# EAGLE library part WURTH-61201021621 (library EagleLibrary)
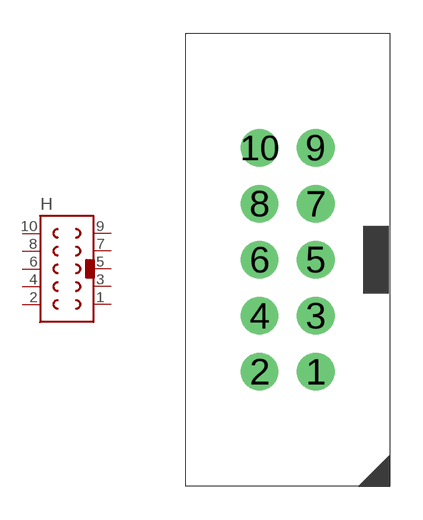
[diagram p21: symbol with the pads of WURTH-61201021621; footprint WURTH-61201021621]

Designator prefix H

## WURTH-61201021621 (MFG: Wurth Elektronik; PN: 61201021621)  [WURTH-61201021621]
1  1
2  2
3  3
4  4
5  5
6  6
7  7
8  8
9  9
10  10

## Footprint WURTH-61201021621 (pad centres in mm)
Double-row, 10-pin Pin Header (Male) Straight, 2.54 mm (0.10 in) row pitch, 2.54 mm (0.10 in) col pitch, 5.84 mm mating length, 20.36 X 9.10 X 15.09 mm body Double-row (2X5), 10-pin Pin Header (Male) Straight package with 2.54 mm (0.10 in) row pitch, 2.54 mm (0.10 in) col pitch, 0.64 mm lead width, 3.00 mm tail length and 5.84 mm mating length with overall size 20.36 X 9.10 X 15.09 mm, pin pattern - clockwise from top left
drill 1.105 pad 1.705: 1 5.895,-15.36; 2 3.355,-15.36; 3 5.895,-12.82; 4 3.355,-12.82; 5 5.895,-10.28; 6 3.355,-10.28; 7 5.895,-7.74; 8 3.355,-7.74; 9 5.895,-5.2; 10 3.355,-5.2